# Altium schematic symbol library SSM3J133TU.SchLib: 2 symbols
Pins are listed as number, name and electrical type; pins without a type are passive.

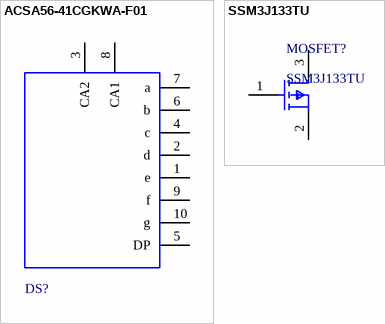
[diagram p0: symbols ACSA56-41CGKWA-F01 to SSM3J133TU]

## ACSA56-41CGKWA-F01
designator DS?  (value not drawn)
DISPLAY 0.56" SGL 574NM GRN SMD; Manufacturer 1: Kingbright; Color: Green; Power Consumption: 75mW; Number of Characters: 1; Element Configuration: Common Anode; Forward Current: 30mA; Forward Voltage: 2.1V; Wavelength: 570nm; Test Current: 20mA; Luminous Intensity: 25mcd; Display Type: Segment; Supplier 1: Digi-Key; Supplier Part Number 1: 754-1033-1-ND; Manufacturer Part Number 1: ACSA56-41CGKWA-F01; RoHS: Yes; Category: LED Displays; Stock 1: 38128; Pricing 1: 1=3.38000, 10=2.25300, 100=1.73360 (USD); Case/Package: SMD/SMT; Min Operating Temperature: -40°C; Max Operating Temperature: 85°C; Package Quantity: 400; Max Power Dissipation: 75mW; Illumination Color: Green; Packaging: Rail/Tube; Operating Supply Voltage: 2.1V; Width: 0.488inch; Height: 0.669inch; RoHS Compliant: Yes; Lead Free: Lead Free; ComponentLink1URL: https://datasheet.ciiva.com/2103/acsa56-41cgkwa-f01-2103794.pdf?src-supplier=Digi-Key; ComponentLink1Description: https://datasheet.ciiva.com/2103/acsa56-41cgkwa-f01-2103794.pdf?src-supplier=Digi-Key; ComponentLink2URL: https://datasheet.ciiva.com/4421/acsa56-41cgkwa-f01-17964-4421697.pdf?src-supplier=Mouser; ComponentLink2Description: https://datasheet.ciiva.com/4421/acsa56-41cgkwa-f01-17964-4421697.pdf?src-supplier=Mouser; ComponentLink3URL: https://datasheet.ciiva.com/16287/acsa56-41cgkwa-f01-16287523.pdf?src-supplier=Future+Electronics; ComponentLink3Description: https://datasheet.ciiva.com/16287/acsa56-41cgkwa-f01-16287523.pdf?src-supplier=Future+Electronics; ComponentLink4URL: https://datasheet.ciiva.com/2103/acsa56-41cgkwa-f01-2103795.pdf?src-supplier=Digi-Key; ComponentLink4Description: https://datasheet.ciiva.com/2103/acsa56-41cgkwa-f01-2103795.pdf?src-supplier=Digi-Key; ComponentLink5URL: https://datasheet.ciiva.com/2103/acsa56-41cgkwa-f01-2103796.pdf?src-supplier=Digi-Key; ComponentLink5Description: https://datasheet.ciiva.com/2103/acsa56-41cgkwa-f01-2103796.pdf?src-supplier=Digi-Key
footprint ACSA56-41CGKWA-F01
pins: 1 e, 2 d, 3 CA2, 4 c, 5 DP, 6 b, 7 a, 8 CA1, 9 f, 10 g

## SSM3J133TU
designator MOSFET?
No Description Available; Mfr_Name: Toshiba Electronic Devices & Storage Corp.; Copyright: Copyright (C) 2022 Ultra Librarian. All rights reserved.; Manufacturer_Part_Number: SSM3J133TU; Digi-Key_Part_Number_1: SSM3J133TULFCT-ND; Digi-Key_Part_Number_2: SSM3J133TULFDKR-ND; Digi-Key_Part_Number_3: SSM3J133TULFTR-ND; RefDes: RefDes; Type: DEV
footprint UFM_TOS
pins: 1 Gate, 2 Source, 3 Drain